# EAGLE library part AFE4490 (library ti)
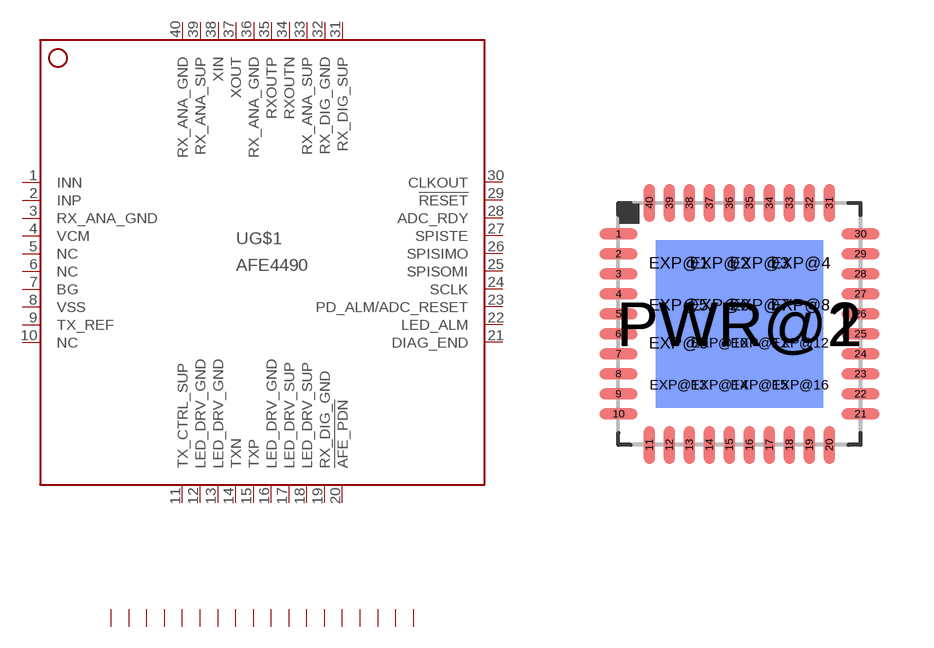
[diagram p5: symbol with the pads of QFN40-6X6; footprint QFN40-6X6]

Designator prefix -; gates G$1=AFE4490 G$2=AFE4490PWRPAD

## AFE4490  [QFN40-6X6]
1  G$1:INN  in
2  G$1:INP  in
3  G$1:RX_ANA_GND  sup
4  G$1:VCM  out
5  G$1:NC  nc
6  G$1:NC  nc
7  G$1:BG  pas
8  G$1:VSS  sup
9  G$1:TX_REF  out
10  G$1:NC  nc
11  G$1:TX_CTRL_SUP  sup
12  G$1:LED_DRV_GND  pwr
13  G$1:LED_DRV_GND  pwr
14  G$1:TXN  out
15  G$1:TXP  out
16  G$1:LED_DRV_GND  pwr
17  G$1:LED_DRV_SUP  pwr
18  G$1:LED_DRV_SUP  pwr
19  G$1:RX_DIG_GND  sup
20  G$1:!AFE_PDN  in
21  G$1:DIAG_END  out
22  G$1:LED_ALM  out
23  G$1:PD_ALM/ADC_RESET
24  G$1:SCLK  in
25  G$1:SPISOMI  out
26  G$1:SPISIMO  in
27  G$1:SPISTE  in
28  G$1:ADC_RDY  out
29  G$1:!RESET  in
30  G$1:CLKOUT  out
31  G$1:RX_DIG_SUP  sup
32  G$1:RX_DIG_GND  sup
33  G$1:RX_ANA_SUP  sup
34  G$1:RXOUTN  out
35  G$1:RXOUTP  out
36  G$1:RX_ANA_GND  sup
37  G$1:XOUT  out
38  G$1:XIN  in
39  G$1:RX_ANA_SUP  sup
40  G$1:RX_ANA_GND  sup
EXP@1  G$2:GND  pwr
EXP@2  G$2:GND  pwr
EXP@3  G$2:GND  pwr
EXP@4  G$2:GND  pwr
EXP@5  G$2:GND  pwr
EXP@6  G$2:GND  pwr
EXP@7  G$2:GND  pwr
EXP@8  G$2:GND  pwr
EXP@9  G$2:GND  pwr
EXP@10  G$2:GND  pwr
EXP@11  G$2:GND  pwr
EXP@12  G$2:GND  pwr
EXP@13  G$2:GND  pwr
EXP@14  G$2:GND  pwr
EXP@15  G$2:GND  pwr
EXP@16  G$2:GND  pwr
PWR@1  G$2:GND  pwr
PWR@2  G$2:GND  pwr

## Footprint QFN40-6X6 (pad centres in mm)
RHA (S-PQFP-N40) 6 x 6 mm Source: http://focus.ti.com/lit/ds/symlink/tps65020.pdf
smd 0.95 x 0.28: 1 -3.025,2.25; 2 -3.025,1.75; 3 -3.025,1.25; 4 -3.025,0.75; 5 -3.025,0.25; 6 -3.025,-0.25; 7 -3.025,-0.75; 8 -3.025,-1.25; 9 -3.025,-1.75; 10 -3.025,-2.25; 21 3.025,-2.25; 22 3.025,-1.75; 23 3.025,-1.25; 24 3.025,-0.75; 25 3.025,-0.25; 26 3.025,0.25; 27 3.025,0.75; 28 3.025,1.25; 29 3.025,1.75; 30 3.025,2.25
smd 0.28 x 0.95: 11 -2.25,-3.025; 12 -1.75,-3.025; 13 -1.25,-3.025; 14 -0.75,-3.025; 15 -0.25,-3.025; 16 0.25,-3.025; 17 0.75,-3.025; 18 1.25,-3.025; 19 1.75,-3.025; 20 2.25,-3.025; 31 2.25,3.025; 32 1.75,3.025; 33 1.25,3.025; 34 0.75,3.025; 35 0.25,3.025; 36 -0.25,3.025; 37 -0.75,3.025; 38 -1.25,3.025; 39 -1.75,3.025; 40 -2.25,3.025
drill 0.3 pad 1.1 square: EXP@1 -1.525,1.525; EXP@2 -0.5,1.525; EXP@3 0.5,1.525; EXP@4 1.525,1.525; EXP@5 -1.525,0.475; EXP@6 -0.5,0.475; EXP@7 0.5,0.475; EXP@8 1.525,0.475; EXP@9 -1.525,-0.475; EXP@10 -0.5,-0.475; EXP@11 0.5,-0.475; EXP@12 1.525,-0.475; EXP@13 -1.525,-1.525; EXP@14 -0.5,-1.525; EXP@15 0.5,-1.525; EXP@16 1.525,-1.525
smd 4.191 x 4.191 bottom: PWR@1 0,0
smd 4.191 x 4.191: PWR@2 0,0